# EAGLE library part LTP-305 (library pimoroni-optoelectronics)
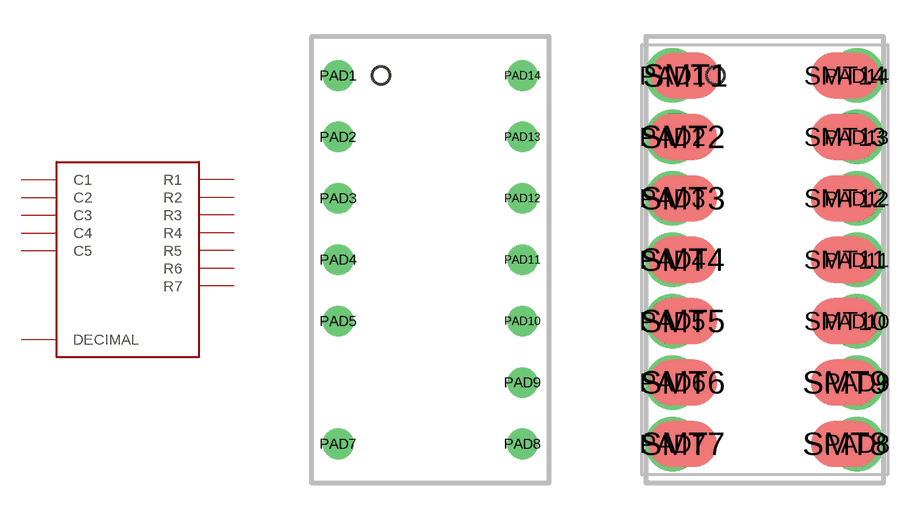
[diagram p4: symbol with the pads of LTP-305; footprints LTP-305, LTP-305-SOCKETED]

Designator prefix LEDMATRIX

## LTP-305  [LTP-305]
PAD1  C2
PAD2  R1
PAD3  R3
PAD4  R4
PAD5  C1
PAD7  DECIMAL
PAD8  C3
PAD9  R7
PAD10  R6
PAD11  R5
PAD12  R2
PAD13  C5
PAD14  C4

## LTP-305SOCKETED  [LTP-305-SOCKETED]
PAD1  C2
PAD2  R1
PAD3  R3
PAD4  R4
PAD5  C1
PAD7  DECIMAL
PAD8  C3
PAD9  R7
PAD10  R6
PAD11  R5
PAD12  R2
PAD13  C5
PAD14  C4
SMT1  C2
SMT2  R1
SMT3  R3
SMT4  R4
SMT5  C1
SMT7  DECIMAL
SMT8  C3
SMT9  R7
SMT10  R6
SMT11  R5
SMT12  R2
SMT13  C5
SMT14  C4

## Footprint LTP-305 (pad centres in mm)
drill 0.762 pad 1.219: PAD1 -3.81,7.62; PAD2 -3.81,5.08; PAD3 -3.81,2.54; PAD4 -3.81,0; PAD5 -3.81,-2.54; PAD7 -3.81,-7.62; PAD8 3.81,-7.62; PAD9 3.81,-5.08; PAD10 3.81,-2.54; PAD11 3.81,0; PAD12 3.81,2.54; PAD13 3.81,5.08; PAD14 3.81,7.62

## Footprint LTP-305-SOCKETED (pad centres in mm)
drill 1.5 pad 1.9: PAD1 -3.81,7.62; PAD2 -3.81,5.08; PAD3 -3.81,2.54; PAD4 -3.81,0; PAD5 -3.81,-2.54; PAD6 -3.81,-5.08; PAD7 -3.81,-7.62; PAD8 3.81,-7.62; PAD9 3.81,-5.08; PAD10 3.81,-2.54; PAD11 3.81,0; PAD12 3.81,2.54; PAD13 3.81,5.08; PAD14 3.81,7.62
smd 2.82 x 1.9: SMT1 -3.28,7.62; SMT2 -3.38,5.08; SMT3 -3.38,2.54; SMT4 -3.38,0; SMT5 -3.38,-2.54; SMT6 -3.38,-5.08; SMT7 -3.38,-7.62; SMT8 3.32,-7.62; SMT9 3.32,-5.08; SMT10 3.32,-2.54; SMT11 3.32,0; SMT12 3.32,2.54; SMT13 3.32,5.08; SMT14 3.32,7.62